# EAGLE library part ROBOCLAW (library ventilator)
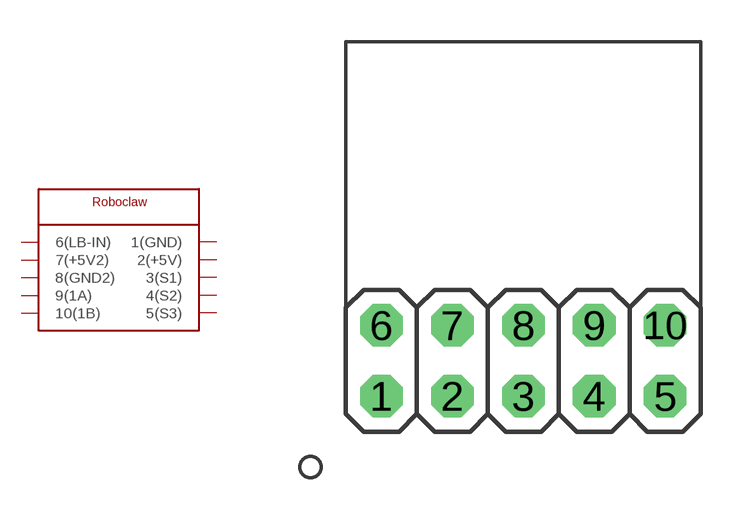
[diagram p4: symbol with the pads of 2X05; footprint 2X05]

Designator prefix -

## ROBOCLAW  [2X05]
1  1(GND)
2  2(+5V)
3  3(S1)
4  4(S2)
5  5(S3)
6  6(LB-IN)
7  7(+5V2)
8  8(GND2)
9  9(1A)
10  10(1B)

## Footprint 2X05 (pad centres in mm)
PIN HEADER
drill 1.016 octagon: 1 -5.08,-1.27; 2 -2.54,-1.27; 3 0,-1.27; 4 2.54,-1.27; 5 5.08,-1.27; 6 -5.08,1.27; 7 -2.54,1.27; 8 0,1.27; 9 2.54,1.27; 10 5.08,1.27